# EAGLE library part ST7735 (library adafruit_ST7735)
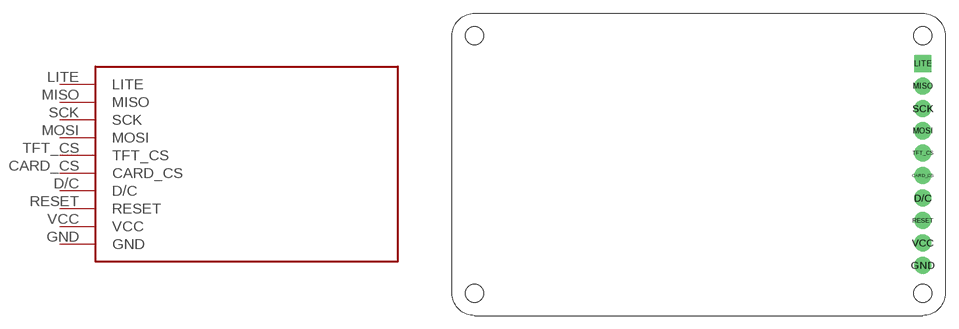
[diagram p0: symbol with the pads of ST7735; footprint ST7735]

Designator prefix -

## ST7735  [ST7735]
CARD_CS  CARD_CS
D/C  D/C
GND  GND
LITE  LITE
MISO  MISO
MOSI  MOSI
RESET  RESET
SCK  SCK
TFT_CS  TFT_CS
VCC  VCC

## Footprint ST7735 (pad centres in mm)
drill 1.016 pad 1.93: CARD_CS 53.34,15.875; D/C 53.34,13.335; GND 53.34,5.715; MISO 53.34,26.035; MOSI 53.34,20.955; RESET 53.34,10.795; SCK 53.34,23.495; TFT_CS 53.34,18.415; VCC 53.34,8.255
drill 1.016 pad 1.93 square: LITE 53.34,28.575